# Altium footprint library Inductors.PcbLib: 13 footprints
Each footprint in its own frame and in the unit in brackets; x right, y up, seen from the top. Pads: shape width x height; smd on the part's side, far side on the other; paste and mask are expansions set on the pad; w line width, h text height; cw(c..) or ccw(c..) is an arc to the next point about the centre after c.
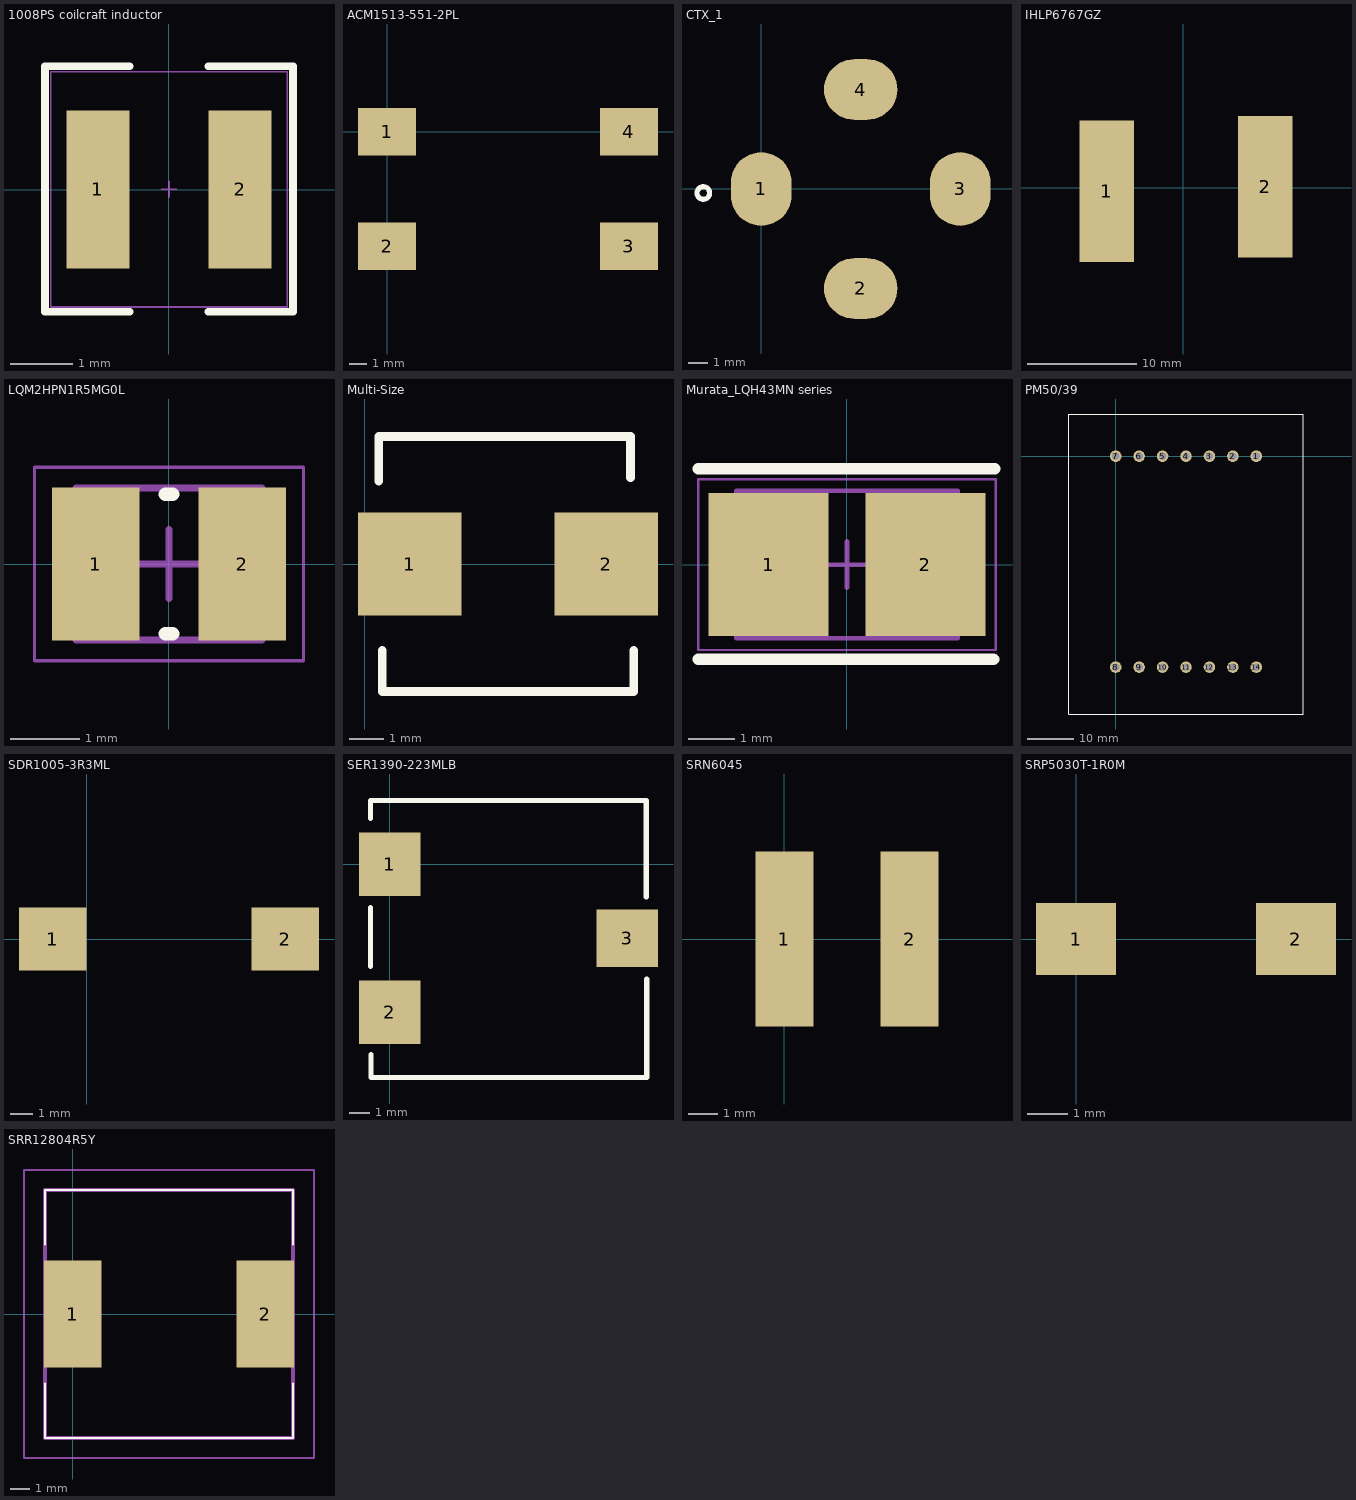
[diagram p0: the footprints below, top view; thin cyan lines are the x and y axes]

## 1008PS coilcraft inductor [mil] "power chip inductor coilcraft 1008PS"
height 107.87
pads (2):
  rect 40x100 smd: 1(-44.72,0.3) 2(45.28,0.3)
Top Overlay:
  lines w5: -24.72,-77.2 -78.22,-77.2 -78.22,78.3 -24.72,78.3 ; 25.28,-77.2 78.78,-77.2 78.78,78.3 25.28,78.3
Mechanical 13:
  lines w1: -4.72,0.3 5.28,0.3 ; 0.28,-4.7 0.28,5.3
Mechanical 14:
  lines w1: -74.72,-74.2 75.28,-74.2 75.28,74.8 -74.72,74.8 -74.72,-74.2
3D body "1008PS.STEP": height 107.87, standoff -0.39, extent -74.72,-74.11 75.28,74.71

## ACM1513-551-2PL [mm] "Filter, Common Mode, ACM Series, 550 ohm, 10 A"
height 2
pads (4):
  rect 3.3x2.7 smd: 1(0,0) 2(0,-6.5) 3(13.7,-6.5) 4(13.7,0)

## CTX_1 [mm] "Power Inductors and Transformers"
pads (4):
  oval 3.05x3.68 smd: 1(0,0) 3(9.96,0)
  oval 3.68x3.05 smd: 2(4.98,-4.98) 4(4.98,4.98)
Top Overlay:
  circle w0.254: c-2.9,-0.2 r0.316

## IHLP6767GZ [mm]
pads (2):
  rect 5x13 smd: 1(-7,-0.3) 2(7.5,0.1)
3D body "IHLP6767GZ.STEP": height 6.99, standoff 0.1, extent -8.288,-8.5 8.888,8.676

## LQM2HPN1R5MG0L [mm] "Surface Mount High Frequency Inductor, 1008 [2520 Metric]"
height 1
pads (2):
  rect 1.27x2.22 smd: 1(-1.065,0) 2(1.065,0)
Top Overlay:
  lines w0.2: -0.05,-1.01 0.05,-1.01 ; -0.05,1.01 0.05,1.01
Mechanical 13:
  lines w0.1: -1.35,-1.1 -1.35,1.1 1.35,1.1 1.35,-1.1 -1.35,-1.1
Mechanical 15:
  lines w0.05: -1.95,-1.4 -1.95,1.4 1.95,1.4 1.95,-1.4 -1.95,-1.4
  lines w0.1: -0.5,0 0.5,0 ; 0,-0.5 0,0.5
3D body "INDC2520X10N.step": height 1, standoff 0, extent -1.35,-1.1 1.35,1.1

## Multi-Size [mm]
pads (2):
  rect 3x3 smd: 1(1.3,0) 2(7,0)
Top Overlay:
  lines w0.254: 0.4,2.4 0.4,3.7 7.7,3.7 7.7,2.5 ; 0.5,-2.5 0.5,-3.7 7.8,-3.7 7.8,-2.5

## Murata_LQH43MN series [mm] "Precision Wire Wound Inductor, 2-Leads, Body 4.50x3.10mm, IPC Medium Density"
height 2.8
pads (2):
  rect 2.6x3.1 smd: 1(-1.7,0) 2(1.7,0)
Top Overlay:
  lines w0.254: -3.225,-2.05 3.175,-2.05 ; -3.225,2.075 3.2,2.075
Mechanical 13:
  lines w0.1: -2.4,-1.6 -2.4,1.6 2.4,1.6 2.4,-1.6 -2.4,-1.6
Mechanical 15:
  lines w0.05: -3.225,-1.85 -3.225,1.85 3.225,1.85 3.225,-1.85 -3.225,-1.85
  lines w0.1: -0.5,0 0.5,0 ; 0,-0.5 0,0.5
3D body "Murata_LQH43MN series.step": height 2.9, standoff 0, extent -2.35,-1.55 2.35,1.55

## PM50/39 [mm] "PM Coil Former, 14 Pins"
pads (14):
  round 2.5 hole 1.6: 1(30.48,0) 2(25.4,0) 3(20.32,0) 4(15.24,0) 5(10.16,0) 6(5.08,0) 7(0,0) 8(0,-45.72) 9(5.08,-45.72) 10(10.16,-45.72) 11(15.24,-45.72) 12(20.32,-45.72) 13(25.4,-45.72) 14(30.48,-45.72)
Top Overlay:
  lines w0.254: -10.16,-55.88 -10.16,9.144 40.64,9.144 40.64,-55.88 -10.16,-55.88

## SDR1005-3R3ML [mm] "3.3 µH, 5 A, Unshielded"
pads (2):
  rect 3x2.8 smd: 1(-1.5,0) 2(8.8,0)
3D body "sdr1005.stp": height 5.05, standoff 0.05, extent -2.7,-5.05 10,4.95

## SER1390-223MLB [mm] "22 µH, 7 A, Shielded"
pads (3):
  rect 3x3.1 smd: 1(0,0) 2(0,-7.24)
  rect 3x2.8 smd: 3(11.6,-3.62)
Top Overlay:
  lines w0.254: -0.94,-5.004 -0.94,-2.134 ; -0.94,2.235 -0.94,3.099 2.108,3.099 12.522,3.099 12.522,-1.6 ; -0.914,-9.296 -0.914,-10.414 12.548,-10.414 12.548,-5.613
3D body "Coilcraft-SER1390.step": height 8.98, standoff -0.02, extent -0.959,-10.484 12.541,3.016

## SRN6045 [mm]
pads (2):
  rect 2x6 smd: 1(0,0) 2(4.3,0)
3D body "srn6045.stp": height 4.5, standoff 0, extent -0.841,-3 5.159,3

## SRP5030T-1R0M [mm] "SRP5030T Series"
pads (2):
  rect 2x1.8 smd: 1(0,0) 2(5.5,0)
3D body "SRP5030T_V2.STP": height 2.6, standoff -0.2, extent -0.183,-2.6 5.717,2.6

## SRR12804R5Y [mm] "Power inductor"
height 10
pads (2):
  rect 2.9x5.4 smd: 1(0,0) 2(9.7,0)
Top Overlay:
  lines w0.1: -1.4,-3.5 -1.4,-6.25 11.1,-6.25 11.1,-3.5 ; -1.4,3.5 -1.4,6.25 11.1,6.25 11.1,3.5
Mechanical 13:
  lines w0.2: -1.4,-6.25 -1.4,6.25 11.1,6.25 11.1,-6.25 -1.4,-6.25
Mechanical 15:
  lines w0.1: -2.45,-7.25 -2.45,7.25 12.15,7.25 12.15,-7.25 -2.45,-7.25
3D body "SRR1280-4R5Y.stp": height 8.1, standoff 0, extent -1.4,-6.25 11.1,6.25